# Altium schematic symbol library SCH - POWER - SWITCHMODE - TI TPS5633_PWP_28.SchLib: 1 symbol
Pins are listed as number, name and electrical type; pins without a type are passive.

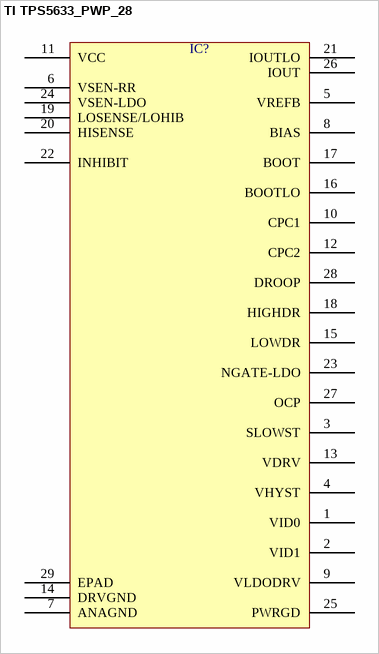
[diagram p0: symbol TI TPS5633_PWP_28]

## TI TPS5633_PWP_28
designator IC?  (value not drawn)
pins: 1 VID0, 2 VID1, 3 SLOWST, 4 VHYST, 5 VREFB, 6 VSEN-RR, 7 ANAGND, 8 BIAS, 9 VLDODRV, 10 CPC1, 11 VCC, 12 CPC2, 13 VDRV, 14 DRVGND, 15 LOWDR, 16 BOOTLO, 17 BOOT, 18 HIGHDR, 19 LOSENSE/LOHIB, 20 HISENSE, 21 IOUTLO, 22 INHIBIT, 23 NGATE-LDO, 24 VSEN-LDO, 25 PWRGD, 26 IOUT, 27 OCP, 28 DROOP, 29 EPAD